# Altium footprint library ICs.PcbLib: 32 footprints (part 2 of 2)
Each footprint in its own frame and in the unit in brackets; x right, y up, seen from the top. Pads: shape width x height; smd on the part's side, far side on the other; paste and mask are expansions set on the pad; w line width, h text height; cw(c..) or ccw(c..) is an arc to the next point about the centre after c.
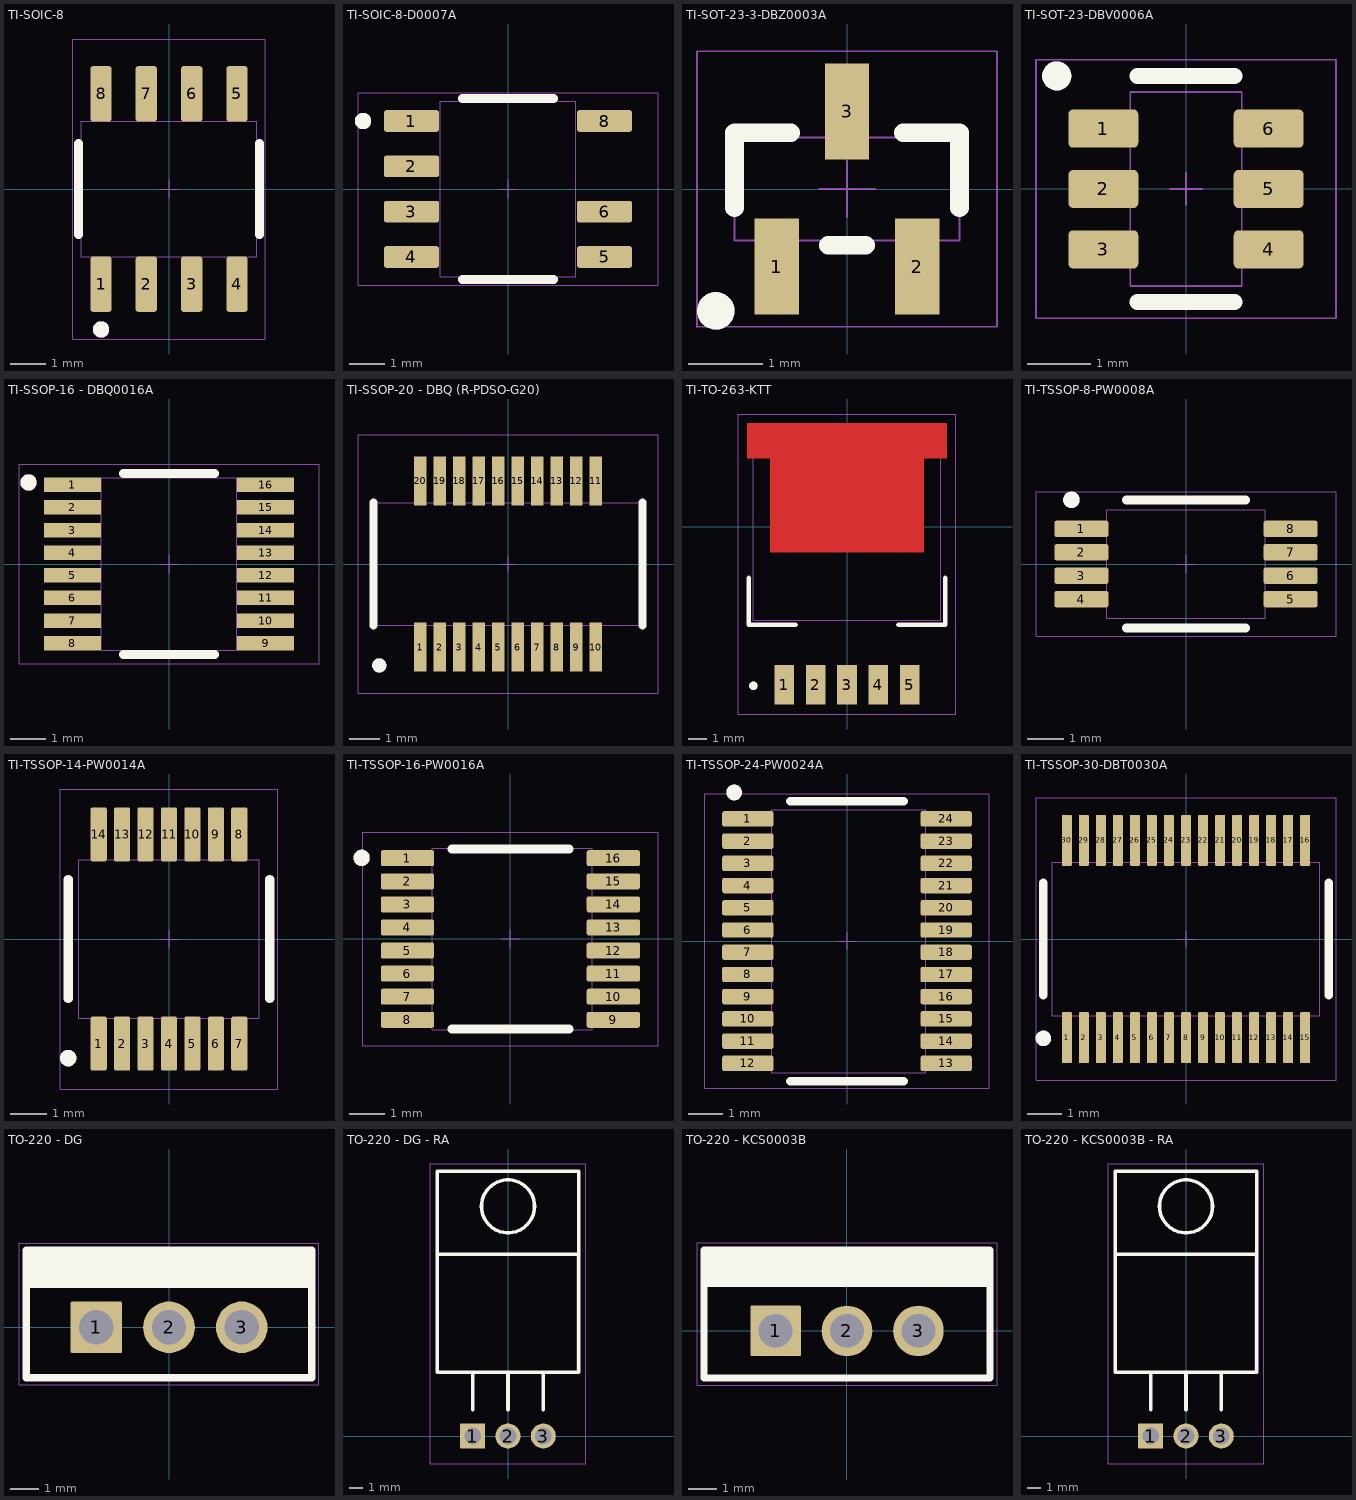
[diagram p1: the footprints below, top view; thin cyan lines are the x and y axes]

## TI-SOIC-8 [mm]
pads (8):
  rrect25% 0.6x1.55 smd mask+0.07: 1(-1.905,-2.667) 2(-0.635,-2.667) 3(0.635,-2.667) 4(1.905,-2.667) 5(1.905,2.667) 6(0.635,2.667) 7(-0.635,2.667) 8(-1.905,2.667)
Top Overlay:
  circle w0.254: c-1.905,-3.937 r0.102
  lines w0.254: -2.54,-1.27 -2.54,1.27 ; 2.54,-1.27 2.54,1.27
Top Courtyard (Mech4):
  lines w0.025: -2.702,-4.204 -2.702,4.204 2.702,4.204 2.702,-4.204 -2.702,-4.204
Top Assembly:
  circle w0.254: c-1.905,-3.937 r0.102
  lines w0.025: -0.254,0 0.254,0 ; 0,-0.254 0,0.254 ; -2.452,-1.9 2.452,-1.9 2.452,1.9 -2.452,1.9 -2.452,-1.9
3D body "TLC27L2ACDR.STEP": height 1.75, standoff 0, extent -2.45,-3 2.45,3

## TI-SOIC-8-D0007A [mil]
pads (7):
  rrect25% 61x24 smd mask+2.76: 1(-106.5,75) 2(-106.5,25) 3(-106.5,-25) 4(-106.5,-75) 5(106.5,-75) 6(106.5,-25) 8(106.5,75)
Top Overlay:
  circle w10: c-160,75 r4
  lines w10: -50,-100 50,-100 ; -50,100 50,100
Top Courtyard (Mech4):
  lines w1: -165.51,-106.4 -165.51,106.4 165.51,106.4 165.51,-106.4 -165.51,-106.4
Top Assembly:
  circle w10: c-160,75 r4
  lines w1: -10,0 10,0 ; 0,-10 0,10 ; -74.8,-96.56 -74.8,96.56 74.8,96.56 74.8,-96.56 -74.8,-96.56
3D body "D0007A.stp": height 64, standoff 0, extent -118.56,-96.5 118.56,96.5

## TI-SOT-23-3-DBZ0003A [mm]
pads (3):
  rect 0.6x1.3 smd mask+0.07: 1(-0.95,-1.05) 2(0.95,-1.05) 3(0,1.05)
Top Overlay:
  circle w0.254: c-1.778,-1.651 r0.127
  lines w0.254: -1.524,-0.254 -1.524,0.762 -0.762,0.762 ; -0.254,-0.762 0.254,-0.762 ; 0.762,0.762 1.524,0.762 1.524,-0.254
Top Courtyard (Mech4):
  lines w0.025: -2.032,-1.867 2.032,-1.867 2.032,1.867 -2.032,1.867 -2.032,-1.867
Top Assembly:
  circle w0.254: c-1.778,-1.651 r0.127
  lines w0.025: -0.381,0 0.381,0 ; 0,-0.381 0,0.381 ; -1.524,-0.699 -1.524,0.699 1.524,0.699 1.524,-0.699 -1.524,-0.699
3D body "SI2301CDS-T1-GE3.STEP": height 1.12, standoff 0, extent -1.46,-1.185 1.46,1.185

## TI-SOT-23-DBV0006A [mm]
pads (6):
  rrect25% 1.1x0.6 smd mask+0.07: 1(-1.3,0.95) 2(-1.3,0) 3(-1.3,-0.95) 4(1.3,-0.95) 5(1.3,0) 6(1.3,0.95)
Top Overlay:
  circle w0.254: c-2.032,1.778 r0.102
  lines w0.254: -0.762,-1.778 0.762,-1.778 ; -0.762,1.778 0.762,1.778
Top Courtyard (Mech4):
  lines w0.025: -2.358,-2.033 -2.358,2.033 2.358,2.033 2.358,-2.033 -2.358,-2.033
Top Assembly:
  circle w0.254: c-2.032,1.778 r0.102
  lines w0.025: -0.254,0 0.254,0 ; 0,-0.254 0,0.254 ; -0.875,-1.525 -0.875,1.525 0.875,1.525 0.875,-1.525 -0.875,-1.525
3D body "UCC28703DBVT.STEP": height 1.45, standoff 0, extent -1.4,-1.45 1.4,1.45

## TI-SSOP-16 - DBQ0016A [mil]
pads (16):
  rect 63x16 smd mask+2: 1(-106.5,87.5) 2(-106.5,62.5) 3(-106.5,37.5) 4(-106.5,12.5) 5(-106.5,-12.5) 6(-106.5,-37.5) 7(-106.5,-62.5) 8(-106.5,-87.5) 9(106.5,-87.5) 10(106.5,-62.5) 11(106.5,-37.5) 12(106.5,-12.5) 13(106.5,12.5) 14(106.5,37.5) 15(106.5,62.5) 16(106.5,87.5)
Top Overlay:
  circle w10: c-155,90 r4
  lines w10: -50,-100 50,-100 ; -50,100 50,100
Top Courtyard (Mech4):
  lines w1: -165.51,-110 165.51,-110 165.51,110 -165.51,110 -165.51,-110
Top Assembly:
  circle w10: c-155,90 r4
  lines w1: -10,0 10,0 ; 0,-10 0,10 ; -75,-95 -75,95 75,95 75,-95 -75,-95
3D body "PCM1754DBQ.STEP": height 69, standoff 0, extent -118,-96.5 118,96.5

## TI-SSOP-20 - DBQ (R-PDSO-G20) [mil]
pads (20):
  rect 16x63 smd mask+2: 1(-112.5,-106.5) 2(-87.5,-106.5) 3(-62.5,-106.5) 4(-37.5,-106.5) 5(-12.5,-106.5) 6(12.5,-106.5) 7(37.5,-106.5) 8(62.5,-106.5) 9(87.48,-106.5) 10(112.48,-106.5) 11(112.48,106.5) 12(87.48,106.5) 13(62.5,106.5) 14(37.5,106.5) 15(12.5,106.5) 16(-12.5,106.5) 17(-37.5,106.5) 18(-62.5,106.5) 19(-87.5,106.5) 20(-112.5,106.5)
Top Overlay:
  circle w10: c-165,-130 r4
  lines w10: -172.24,-78.74 -172.24,78.74 ; 172.24,-78.74 172.24,78.74
Top Courtyard (Mech4):
  lines w1: -192.24,-165.51 192.24,-165.51 192.24,165.51 -192.24,165.51 -192.24,-165.51
Top Assembly:
  circle w10: c-165,-130 r4
  lines w1: -10,0 10,0 ; 0,-10 0,10 ; -172.24,-78.74 -172.24,78.74 172.24,78.74 172.24,-78.74 -172.24,-78.74
3D body "DBQ0020A.stp": height 67.72, standoff 0, extent -170.28,-118.11 170.28,118.11

## TI-TO-263-KTT [mil]
pads (6):
  rect 42x85 smd mask+2.76: 1(-134,-337.75) 2(-67,-337.75) 3(0,-337.75) 4(67,-337.75) 5(134,-337.75)
  round 1 smd mask+2.76: 6(0,82.75)
Top Layer:
  region: -212.5,145.25 -164,145.25 -164,-54.75 164,-54.75 164,145.25 212.5,145.25 212.5,220.25 -212.5,220.25
Top Overlay:
  circle w10: c-200,-340 r4
  lines w10: -210,-110 -210,-210 -110,-210 ; 110,-210 210,-210 210,-110
Top Courtyard (Mech4):
  lines w1: -232.5,-400.25 -232.5,240.25 232.5,240.25 232.5,-400.25 -232.5,-400.25
Top Assembly:
  circle w10: c-200,-340 r4
  lines w1: -10,0 10,0 ; 0,-10 0,10 ; -200,-200 200,-200 200,200 -200,200 -200,-200
3D body "LM2595S-ADJ.STEP": height 183, standoff -6, extent -200,-362.5 200,202.5

## TI-TSSOP-8-PW0008A [mm]
pads (8):
  rrect25% 1.5x0.45 smd mask+0.05: 1(-2.9,0.975) 2(-2.9,0.325) 3(-2.9,-0.325) 4(-2.9,-0.975) 5(2.9,-0.975) 6(2.9,-0.325) 7(2.9,0.325) 8(2.9,0.975)
Top Overlay:
  circle w0.254: c-3.175,1.778 r0.102
  lines w0.254: -1.651,-1.778 1.651,-1.778 ; -1.651,1.778 1.651,1.778
Top Courtyard (Mech4):
  lines w0.025: -4.158,-2.008 -4.158,2.008 4.158,2.008 4.158,-2.008 -4.158,-2.008
Top Assembly:
  circle w0.254: c-3.175,1.778 r0.102
  lines w0.025: -0.254,0 0.254,0 ; 0,-0.254 0,0.254 ; -2.2,-1.5 -2.2,1.5 2.2,1.5 2.2,-1.5 -2.2,-1.5
3D body "CDCLVC1102PWR--3DModel-STEP-56544.STEP": height 1.2, standoff 0, extent -3.2,-1.5 3.2,1.5

## TI-TSSOP-14-PW0014A [mm]
pads (14):
  rrect25% 0.45x1.5 smd mask+0.05: 1(-1.95,-2.9) 2(-1.3,-2.9) 3(-0.65,-2.9) 4(0,-2.9) 5(0.65,-2.9) 6(1.3,-2.9) 7(1.95,-2.9) 8(1.95,2.9) 9(1.3,2.9) 10(0.65,2.9) 11(0,2.9) 12(-0.65,2.9) 13(-1.3,2.9) 14(-1.95,2.9)
Top Overlay:
  circle w0.254: c-2.794,-3.302 r0.102
  lines w0.254: -2.794,-1.651 -2.794,1.651 ; 2.794,-1.651 2.794,1.651
Top Courtyard (Mech4):
  lines w0.025: -3.008,-4.158 -3.008,4.158 3.008,4.158 3.008,-4.158 -3.008,-4.158
Top Assembly:
  circle w0.254: c-2.794,-3.302 r0.102
  lines w0.025: -0.254,0 0.254,0 ; 0,-0.254 0,0.254 ; -2.5,-2.2 2.5,-2.2 2.5,2.2 -2.5,2.2 -2.5,-2.2
3D body "CDCLVC1106PW.STEP": height 1.2, standoff 0, extent -2.5,-3.2 2.5,3.2

## TI-TSSOP-16-PW0016A [mm]
pads (16):
  rrect25% 1.5x0.45 smd mask+0.05: 1(-2.9,2.275) 2(-2.9,1.625) 3(-2.9,0.975) 4(-2.9,0.325) 5(-2.9,-0.325) 6(-2.9,-0.975) 7(-2.9,-1.625) 8(-2.9,-2.275) 9(2.9,-2.275) 10(2.9,-1.625) 11(2.9,-0.975) 12(2.9,-0.325) 13(2.9,0.325) 14(2.9,0.975) 15(2.9,1.625) 16(2.9,2.275)
Top Overlay:
  circle w0.254: c-4.191,2.286 r0.102
  lines w0.254: -1.651,-2.54 1.651,-2.54 ; -1.651,2.54 1.651,2.54
Top Courtyard (Mech4):
  lines w0.025: -4.158,-3.008 -4.158,3.008 4.158,3.008 4.158,-3.008 -4.158,-3.008
Top Assembly:
  circle w0.254: c-4.191,2.286 r0.102
  lines w0.025: -0.254,0 0.254,0 ; 0,-0.254 0,0.254 ; -2.2,-2.55 -2.2,2.55 2.3,2.55 2.3,-2.55 -2.2,-2.55
3D body "ADS7828E_250.STEP": height 1.2, standoff 0, extent -3.2,-2.5 3.2,2.5

## TI-TSSOP-24-PW0024A [mm]
pads (24):
  rrect25% 1.5x0.45 smd mask+0.05: 1(-2.9,3.575) 2(-2.9,2.925) 3(-2.9,2.275) 4(-2.9,1.625) 5(-2.9,0.975) 6(-2.9,0.325) 7(-2.9,-0.325) 8(-2.9,-0.975) 9(-2.9,-1.625) 10(-2.9,-2.275) 11(-2.9,-2.925) 12(-2.9,-3.575) 13(2.9,-3.575) 14(2.9,-2.925) 15(2.9,-2.275) 16(2.9,-1.625) 17(2.9,-0.975) 18(2.9,-0.325) 19(2.9,0.325) 20(2.9,0.975) 21(2.9,1.625) 22(2.9,2.275) 23(2.9,2.925) 24(2.9,3.575)
Top Overlay:
  circle w0.254: c-3.302,4.348 r0.102
  lines w0.254: -1.651,-4.094 1.651,-4.094 ; -1.651,4.094 1.651,4.094
Top Courtyard (Mech4):
  lines w0.025: -4.158,-4.308 -4.158,4.308 4.158,4.308 4.158,-4.308 -4.158,-4.308
Top Assembly:
  circle w0.254: c-3.302,4.348 r0.102
  lines w0.025: -0.254,0 0.254,0 ; 0,-0.254 0,0.254 ; -2.2,-3.85 -2.2,3.85 2.3,3.85 2.3,-3.85 -2.2,-3.85
3D body "TCA9535PWR.STEP": height 1.2, standoff 0, extent -3.2,-3.9 3.2,3.9

## TI-TSSOP-30-DBT0030A [mm]
pads (30):
  rrect25% 0.3x1.5 smd mask+0.05: 1(-3.5,-2.9) 2(-3,-2.9) 3(-2.5,-2.9) 4(-2,-2.9) 5(-1.5,-2.9) 6(-1,-2.9) 7(-0.5,-2.9) 8(0,-2.9) 9(0.5,-2.9) 10(1,-2.9) 11(1.5,-2.9) 12(2,-2.9) 13(2.5,-2.9) 14(3,-2.9) 15(3.5,-2.9) 16(3.5,2.9) 17(3,2.9) 18(2.5,2.9) 19(2,2.9) 20(1.5,2.9) 21(1,2.9) 22(0.5,2.9) 23(0,2.9) 24(-0.5,2.9) 25(-1,2.9) 26(-1.5,2.9) 27(-2,2.9) 28(-2.5,2.9) 29(-3,2.9) 30(-3.5,2.9)
Top Overlay:
  circle w0.254: c-4.191,-2.921 r0.102
  lines w0.254: -4.191,-1.651 -4.191,1.651 ; 4.191,-1.651 4.191,1.651
Top Courtyard (Mech4):
  lines w0.025: -4.408,-4.158 -4.408,4.158 4.408,4.158 4.408,-4.158 -4.408,-4.158
Top Assembly:
  circle w0.254: c-4.191,-2.921 r0.102
  lines w0.025: -0.254,0 0.254,0 ; 0,-0.254 0,0.254 ; -3.925,-2.25 3.925,-2.25 3.925,2.25 -3.925,2.25 -3.925,-2.25
3D body "PCM1862DBTR.STEP": height 1.2, standoff 0, extent -3.9,-3.2 3.9,3.2

## TO-220 - DG [mm]
pads (3):
  rrect6% 1.8x1.8 hole 1.2 mask+0.07: 1(-2.54,0)
  round 1.8 hole 1.2 mask+0.07: 2(0,0) 3(2.54,0)
Top Overlay:
  rectangle: -4.985,1.366 4.985,2.686
  lines w0.254: -4.985,-1.759 4.985,-1.759 4.985,2.686 -4.985,2.686 -4.985,-1.759
Top Courtyard (Mech4):
  lines w0.025: -5.239,-2.013 5.239,-2.013 5.239,2.94 -5.239,2.94 -5.239,-2.013
Top Assembly:
  lines w0.025: -0.635,0 0.635,0 ; 0,-0.635 0,0.635 ; -4.985,-1.759 4.985,-1.759 4.985,2.686 -4.985,2.686 -4.985,-1.759
3D body "L7812ACV-DG.STEP": height 19.68, standoff -10.34, extent -4.985,-1.759 4.985,2.686

## TO-220 - DG - RA [mm]
pads (3):
  rrect6% 1.8x1.8 hole 1.2 mask+0.07: 1(-2.54,0)
  round 1.8 hole 1.2 mask+0.07: 2(0,0) 3(2.54,0)
Top Overlay:
  circle w0.254: c0,16.51 r1.905
  lines w0.254: -2.54,1.905 -2.54,4.572 ; 0,1.905 0,4.572 ; 2.54,1.905 2.54,4.572 ; -5.08,13.081 5.08,13.081 ; -5.08,13.081 -5.08,4.572 5.08,4.572 5.08,13.081 ; -5.08,13.081 -5.08,19.05 5.08,19.05 5.08,13.081
Top Courtyard (Mech4):
  lines w0.025: -5.588,-2.013 5.588,-2.013 5.588,19.558 -5.588,19.558 -5.588,-2.013
Top Assembly:
  lines w0.025: -0.635,0 0.635,0 ; 0,-0.635 0,0.635 ; -4.985,4.572 4.985,4.572 4.985,13.081 -4.985,13.081 -4.985,4.572
3D body "TO220 H.STEP": height 4.45, standoff -1.79, extent -5.08,-0.191 5.08,19.089

## TO-220 - KCS0003B [mm]
pads (3):
  rrect6% 1.8x1.8 hole 1.2 mask+0.07: 1(-2.54,0)
  round 1.8 hole 1.2 mask+0.07: 2(0,0) 3(2.54,0)
Top Overlay:
  rectangle: -5.08,1.555 5.08,2.875
  lines w0.254: -5.08,-1.675 -5.08,2.875 5.08,2.875 5.08,-1.675 -5.08,-1.675
Top Courtyard (Mech4):
  lines w0.025: -5.334,-1.929 -5.334,3.129 5.334,3.129 5.334,-1.929 -5.334,-1.929
Top Assembly:
  lines w0.025: -0.635,0 0.635,0 ; 0,-0.635 0,0.635 ; -5.08,-1.675 -5.08,2.875 5.08,2.875 5.08,-1.675 -5.08,-1.675
3D body "LM317KCS.STEP": height 19.65, standoff -9.22, extent -5.08,-1.675 5.08,2.875

## TO-220 - KCS0003B - RA [mm]
pads (3):
  rrect6% 1.8x1.8 hole 1.2 mask+0.07: 1(-2.54,0)
  round 1.8 hole 1.2 mask+0.07: 2(0,0) 3(2.54,0)
Top Overlay:
  circle w0.254: c0,16.51 r1.905
  lines w0.254: -2.54,1.905 -2.54,4.572 ; 0,1.905 0,4.572 ; 2.54,1.905 2.54,4.572 ; -5.08,13.081 5.08,13.081 ; -5.08,13.081 -5.08,4.572 5.08,4.572 5.08,13.081 ; -5.08,13.081 -5.08,19.05 5.08,19.05 5.08,13.081
Top Courtyard (Mech4):
  lines w0.025: -5.588,-2.013 5.588,-2.013 5.588,19.558 -5.588,19.558 -5.588,-2.013
Top Assembly:
  lines w0.025: -0.635,0 0.635,0 ; 0,-0.635 0,0.635 ; -4.985,4.572 4.985,4.572 4.985,13.081 -4.985,13.081 -4.985,4.572
3D body "TO220 H.STEP": height 4.45, standoff -1.79, extent -5.08,-0.191 5.08,19.089